# EAGLE library part G6A-234P (library relay)
RELAY 2 x switch, 0.3 A/125 V AC, 1 A/30 V DC, Omron
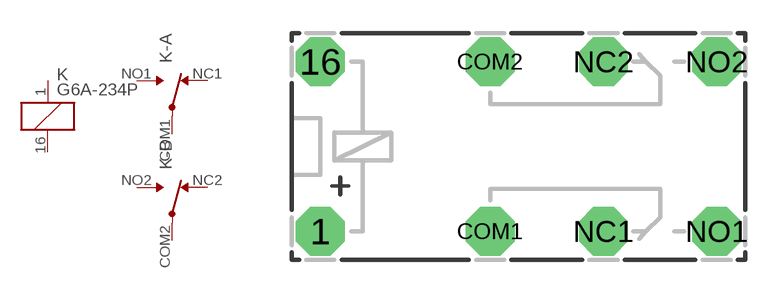
[diagram p6: symbol with the pads of G6A-234P; footprint G6A-234P]

Designator prefix K; gates C=K -A=U -B=U

## G6A-234P  [G6A-234P]
1  C:1  pas
16  C:2  pas
COM1  -A:COM  pas
COM2  -B:COM  pas
NC1  -A:NC  pas
NC2  -B:NC  pas
NO1  -A:NO  pas
NO2  -B:NO  pas

## Footprint G6A-234P (pad centres in mm)
RELAY 2 x switch, 0.3 A/125 V AC, 1 A/30 V DC, Omron
drill 1.016 pad 2.184 octagon: 1 -3.81,-3.81; 16 -3.81,3.81; COM1 3.81,-3.81; COM2 3.81,3.81; NC1 8.89,-3.81; NC2 8.89,3.81; NO1 13.97,-3.81; NO2 13.97,3.81